# Altium schematic symbol library IND 330uH.SchLib: 1 symbol
Pins are listed as number, name and electrical type; pins without a type are passive.

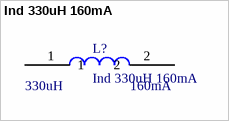
[diagram p0: symbol Ind 330uH 160mA]

## Ind 330uH 160mA
designator L?  Current: 160mA  Indutance: 330uH
330uH ±10% 160mA 3Ω Axial General Inductors (TH) RoHS; Manufacturer: CENKER; Mfr.Part #: CKL0510*330uH/K-A T; LCSC Part #: C354671; ComponentLink1Description: Datasheet; ComponentLink1URL: https://datasheet.lcsc.com/szlcsc/1912111437_CENKER-CKL0510-330uH-K-A-T_C354671.pdf
footprint PCBComponent_1
pins: 1, 2